# EAGLE library part 50224-009 (library con-aces-50224-series)
ACES CONNECTORS 50224 SERIES Aces Connectors 50224 <https://www.acesconn.com/tw/series/50224-xxxxx-xxx/3165>
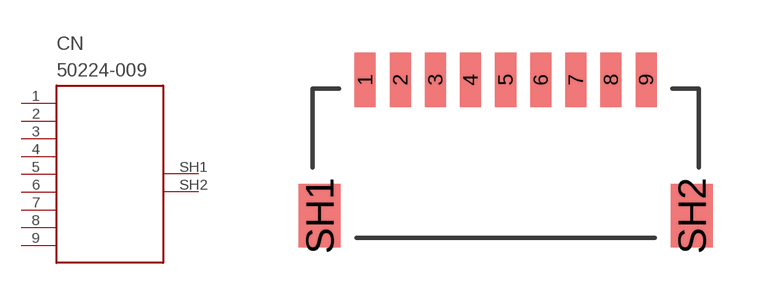
[diagram p5: symbol with the pads of 50224-009; footprint 50224-009]

Designator prefix CN

## 50224-009  [50224-009]
1  1
2  2
3  3
4  4
5  5
6  6
7  7
8  8
9  9
SH1  SH1
SH2  SH2

## Footprint 50224-009 (pad centres in mm)
smd 0.6 x 1.55: 1 -4,0; 2 -3,0; 3 -2,0; 4 -1,0; 5 0,0; 6 1,0; 7 2,0; 8 3,0; 9 4,0
smd 1.2 x 1.8: SH1 -5.3,-3.875; SH2 5.3,-3.875